# Altium schematic symbol library SnapEDAsch.SchLib: 1 symbol
Pins are listed as number, name and electrical type; pins without a type are passive.

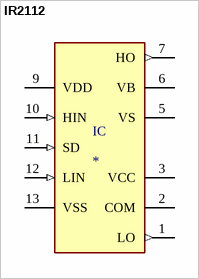
[diagram p0: symbol IR2112]

## IR2112
designator IC
High-Side or Low-Side Gate Driver IC Non-Inverting 14-DIP; MF: Infineon; MP: IR2112; Price: None; SnapEDA_Link: https://www.snapeda.com/parts/IR2112/Infineon%20Technologies/view-part/560530/?ref=snap; Value: *; Availability: Unavailable; Package: DIP-14 Infineon
footprint DIL14
pins: 1 LO (out), 2 COM (power), 3 VCC (power), 5 VS (power), 6 VB (power), 7 HO (out), 9 VDD (power), 10 HIN (in), 11 SD (in), 12 LIN (in), 13 VSS (power)